# Altium footprint library Capacitors THD.PcbLib: 270 footprints (part 1 of 17)
Each footprint in its own frame and in the unit in brackets; x right, y up, seen from the top. Pads: shape width x height; smd on the part's side, far side on the other; paste and mask are expansions set on the pad; w line width, h text height; cw(c..) or ccw(c..) is an arc to the next point about the centre after c.
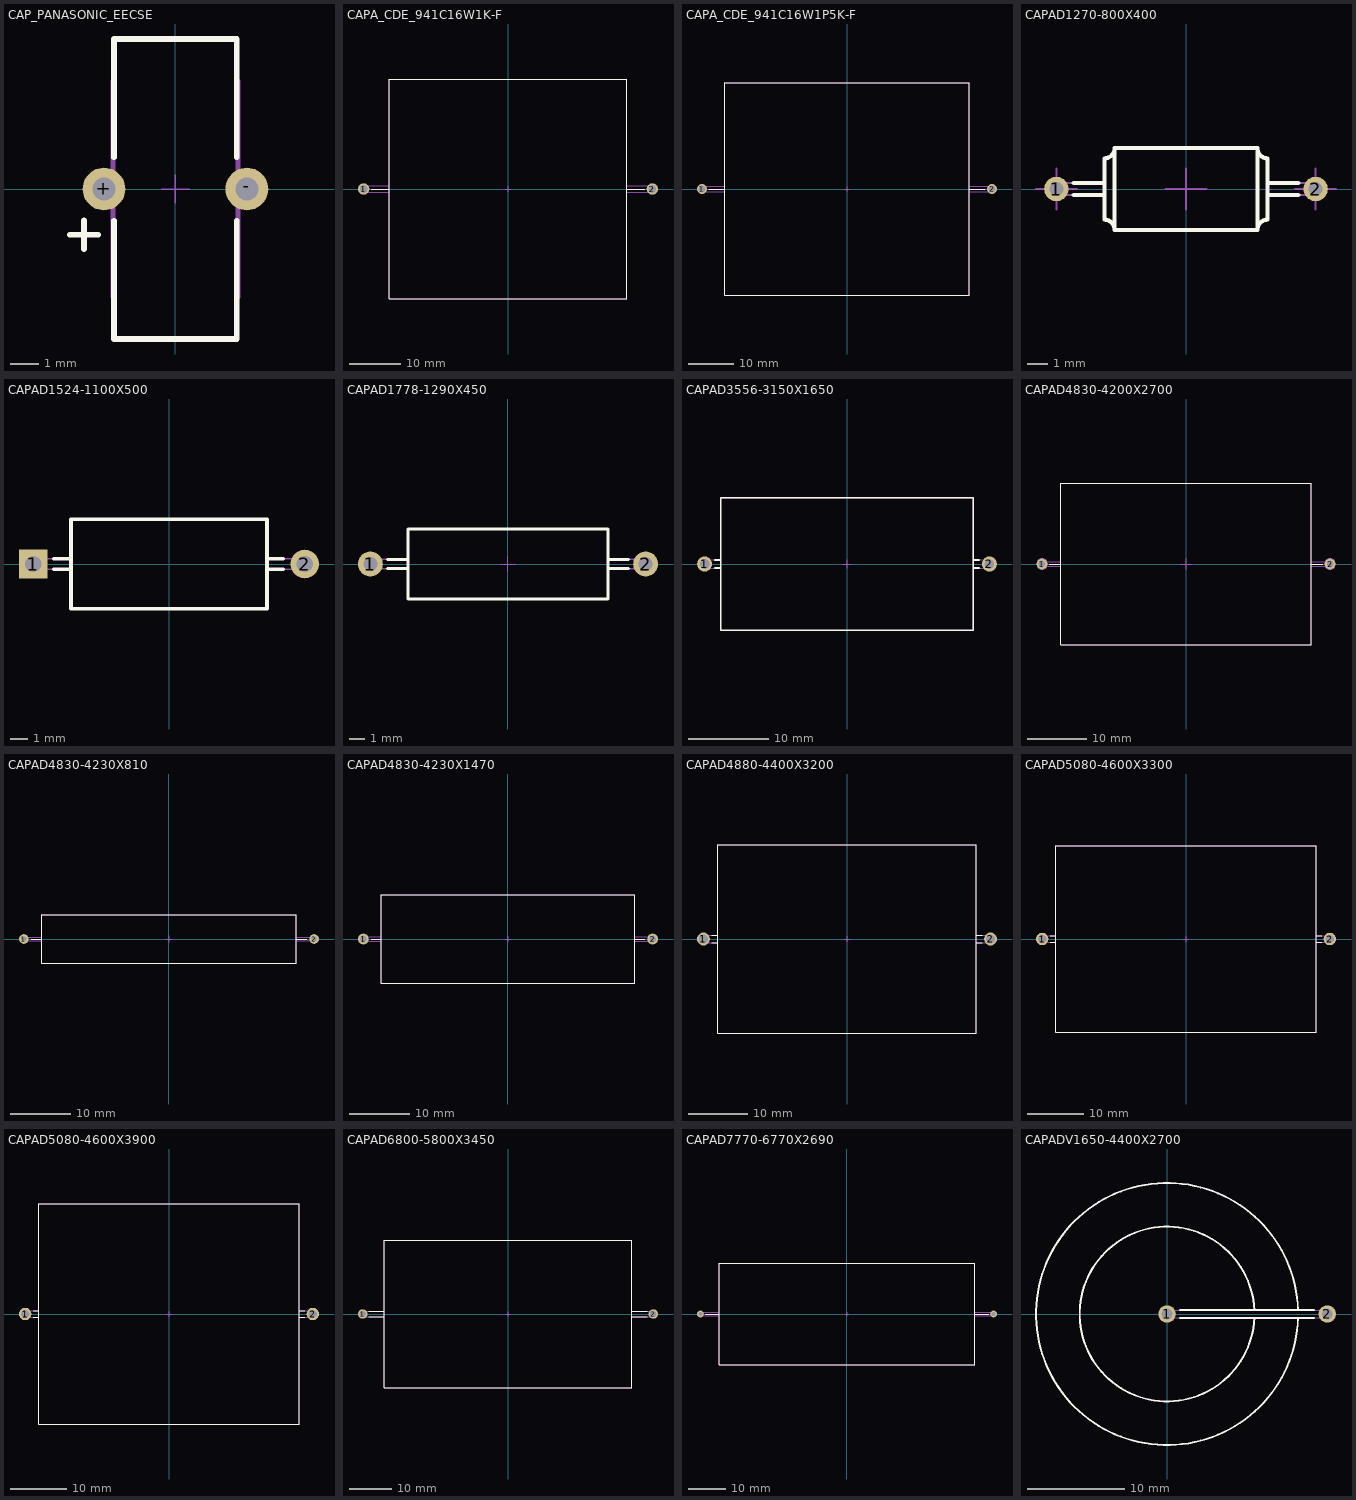
[diagram p0: the footprints below, top view; thin cyan lines are the x and y axes]

## CAP_PANASONIC_EECSE [mm] "Electric Double Layer Capacitor (Gold Capacitor) (EECSE Series)"
height 13.4
pads (2):
  round 1.5 hole 0.8: +(-2.5,0) -(2.5,0)
Top Overlay:
  lines w0.2: -3.7,-1.6 -2.7,-1.6 ; -3.2,-2.1 -3.2,-1.1 ; -2.15,-1.113 -2.15,-5.25 2.15,-5.25 2.15,-1.113 ; -2.15,1.113 -2.15,5.25 2.15,5.25 2.15,1.113
Mechanical 8:
  lines w0.05: -3,0 -2.5,0 ; -2.5,-0.5 -2.5,0 ; -2.5,0.5 -2.5,0 ; -2,0 -2.5,0 ; -0.5,0 0,0 ; 0,-0.5 0,0 ; 0,0.5 0,0 ; 0.5,0 0,0 ; 2,0 2.5,0 ; 2.5,-0.5 2.5,0 ; 2.5,0.5 2.5,0 ; 3,0 2.5,0
Mechanical 14:
  lines w0.1: -3.7,-1.6 -2.7,-1.6 ; -3.2,-2.1 -3.2,-1.1 ; -2.225,-0.275 -2.5,-0.275 cw(c-2.5,0) -2.5,0.275 -2.225,0.275 ; 2.225,-0.275 2.5,-0.275 ccw(c2.5,0) 2.5,0.275 2.225,0.275 ; -2.15,-5.25 2.15,-5.25 ; -2.15,-5.25 2.15,-5.25 ; -2.15,-5.25 -2.15,5.25 2.15,5.25 2.15,-5.25 ; -2.225,-3.8 -2.15,-3.8 -2.15,0 -2.15,3.8 -2.225,3.8 -2.225,-3.8 ; 2.15,-3.8 2.225,-3.8 2.225,3.8 2.15,3.8 2.15,0 2.15,-3.8
3D body "CAP_PANASONIC_EECSE.stp": height 13.4, standoff -3.6, extent -2.775,-5.25 2.775,5.25

## CAPA_CDE_941C16W1K-F [mm] "Capacitor Axial, Pin spacing 56mm - Body Length 46mm X Body Width 42.5mm Body Height 33.1mm"
height 33.1
pads (2):
  round 2.2 hole 1.5: 1(-28,0) 2(28,0)
Top Overlay:
  lines w0.2: -26.5,0 -23,0 ; 23,0 26.5,0 ; -23,-21.25 23,-21.25 23,21.25 -23,21.25 -23,-21.25
Mechanical 8:
  lines w0.1: -28.5,0 -28,0 ; -28,-0.5 -28,0 ; -28,0.5 -28,0 ; -27.5,0 -28,0 ; -0.5,0 0,0 ; 0,-0.5 0,0 ; 0,0.5 0,0 ; 0.5,0 0,0 ; 27.5,0 28,0 ; 28,-0.5 28,0 ; 28,0.5 28,0 ; 28.5,0 28,0
Mechanical 14:
  lines w0.1: -23,-0.6 -28,-0.6 cw(c-28,0) -28,0.6 -23,0.6 ; 23,-0.6 28,-0.6 ccw(c28,0) 28,0.6 23,0.6 ; -23,-21.25 23,-21.25 23,21.25 -23,21.25 -23,-21.25
3D body "CAPA_CDE_941C16W1K-F.stp": height 33.1, standoff -3.8, extent -28.595,-21.25 28.596,21.25

## CAPA_CDE_941C16W1P5K-F [mm] "Capacitor Axial, Pin spacing 64mm - Body Length 54mm X Body Width 47mm Body Height 34.5mm"
height 34.5
pads (2):
  round 2.2 hole 1.5: 1(-32,0) 2(32,0)
Top Overlay:
  lines w0.2: -30.5,0 -27,0 ; 27,0 30.5,0 ; -27,-23.5 -27,23.5 27,23.5 27,-23.5 -27,-23.5
Mechanical 8:
  lines w0.1: -32.5,0 -32,0 ; -32,-0.5 -32,0 ; -32,0.5 -32,0 ; -31.5,0 -32,0 ; -0.5,0 0,0 ; 0,-0.5 0,0 ; 0,0.5 0,0 ; 0.5,0 0,0 ; 31.5,0 32,0 ; 32,-0.5 32,0 ; 32,0.5 32,0 ; 32.5,0 32,0
Mechanical 14:
  lines w0.1: -27,-0.6 -32,-0.6 cw(c-32,0) -32,0.6 -27,0.6 ; 27,-0.6 32,-0.6 ccw(c32,0) 32,0.6 27,0.6 ; -27,-23.5 -27,23.5 27,23.5 27,-23.5 -27,-23.5
3D body "CAPA_CDE_941C16W1P5K-F.stp": height 34.5, standoff -3.25, extent -32.595,-23.5 32.595,23.5

## CAPAD1270-800X400 [mm] "Capacitor Axial, Pin spacing 12.7mm - Body Length 8mm X Body Diameter 4mm"
height 4
pads (2):
  round 1.2 hole 0.7: 1(-6.35,0) 2(6.35,0)
Top Overlay:
  lines w0.2: -5.5,-0.3 -4,-0.3 ; -5.5,0.3 -4,0.3 ; 4,-0.3 5.5,-0.3 ; 4,0.3 5.5,0.3 ; -3.5,-2 ccw(c-4,-2) -4,-1.5 -4,1.5 ccw(c-4,2) -3.5,2 ; -3.5,-2 3.5,-2 ; -3.5,-2 -3.5,2 ; -3.5,2 3.5,2 ; 3.5,-2 cw(c4,-2) 4,-1.5 4,1.5 cw(c4,2) 3.5,2 ; 3.5,-2 3.5,2
Mechanical 8:
  lines w0.1: -7.35,0 -6.35,0 ; -6.35,-1 -6.35,0 ; -6.35,1 -6.35,0 ; -5.35,0 -6.35,0 ; -1,0 0,0 ; 0,-1 0,0 ; 0,1 0,0 ; 1,0 0,0 ; 5.35,0 6.35,0 ; 6.35,-1 6.35,0 ; 6.35,1 6.35,0 ; 7.35,0 6.35,0
Mechanical 14:
  lines w0.1: -4,-0.3 -6.35,-0.3 cw(c-6.35,0) -6.35,0.3 -4,0.3 ; 4,-0.3 6.35,-0.3 ccw(c6.35,0) 6.35,0.3 4,0.3 ; -3.5,-2 ccw(c-4,-2) -4,-1.5 -4,1.5 ccw(c-4,2) -3.5,2 ; -3.5,-2 3.5,-2 ; -3.5,-2 -3.5,2 ; -3.5,2 3.5,2 ; 3.5,-2 cw(c4,-2) 4,-1.5 4,1.5 cw(c4,2) 3.5,2 ; 3.5,-2 3.5,2
3D body "CAPA1270-800X400.stp": height 4, standoff -3.6, extent -6.65,-2 6.65,2

## CAPAD1524-1100X500 [mm] "Capacitor Axial, Pin spacing 15.24mm - Body Length 11mm X Body Diameter 5.0mm"
height 5
pads (2):
  rect 1.6x1.6 hole 0.9: 1(-7.62,0)
  round 1.6 hole 0.9: 2(7.62,0)
Top Overlay:
  lines w0.2: -6.47,-0.3 -5.5,-0.3 ; -6.47,0.3 -5.5,0.3 ; 0,2.5 -5.5,2.5 ; 5.5,-0.3 6.425,-0.3 ; 5.5,0.3 6.425,0.3 ; -5.5,2.5 5.5,2.5 5.5,-2.5 -5.5,-2.5 -5.5,2.5
Mechanical 8:
  lines w0.1: -8.12,0 -7.62,0 ; -7.62,-0.5 -7.62,0 ; -7.62,0.5 -7.62,0 ; -7.12,0 -7.62,0 ; 7.12,0 7.62,0 ; 7.62,-0.5 7.62,0 ; 7.62,0.5 7.62,0 ; 8.12,0 7.62,0
Mechanical 14:
  lines w0.1: -5.5,-0.3 -7.62,-0.3 cw(c-7.62,0) -7.62,0.3 -5.5,0.3 ; 0,2.5 -5.5,2.5 ; 5.5,-0.3 7.62,-0.3 ccw(c7.62,0) 7.62,0.3 5.5,0.3 ; -5.5,2.5 5.5,2.5 5.5,-2.5 -5.5,-2.5 -5.5,2.5
3D body "CAPAD1524-1100X500.stp": height 5, standoff -3.1, extent -7.917,-2.5 7.918,2.5

## CAPAD1778-1290X450 [mm] "Capacitor Axial, Pin spacing 17.78mm - Body Length 12.9mm X Body Diameter 4.5mm"
height 4.5
pads (2):
  round 1.6 hole 0.9: 1(-8.89,0) 2(8.89,0)
Top Overlay:
  lines w0.2: -7.78,-0.3 -6.45,-0.3 ; -7.78,0.3 -6.45,0.3 ; 6.45,-0.3 7.78,-0.3 ; 6.45,0.3 7.78,0.3 ; -6.45,-2.25 6.45,-2.25 6.45,2.25 -6.45,2.25 -6.45,-2.25
Mechanical 8:
  lines w0.05: -9.39,0 -8.89,0 ; -8.89,-0.5 -8.89,0 ; -8.89,0.3 -8.89,0 ; -8.89,0.5 -8.89,0 ; -8.39,0 -8.89,0 ; -0.5,0 0,0 ; 0,-0.5 0,0 ; 0,0.5 0,0 ; 0.5,0 0,0 ; 8.39,0 8.89,0 ; 8.89,-0.5 8.89,0 ; 8.89,0.5 8.89,0 ; 9.39,0 8.89,0
Mechanical 14:
  lines w0.1: -6.45,-0.3 -8.89,-0.3 cw(c-8.89,0) -8.89,0.3 -6.45,0.3 ; 6.45,-0.3 8.89,-0.3 ccw(c8.89,0) 8.89,0.3 6.45,0.3 ; -6.45,-2.25 6.45,-2.25 6.45,2.25 -6.45,2.25 -6.45,-2.25
3D body "CAPAD1778-1290X450.stp": height 4.5, standoff -3.2, extent -9.187,-2.25 9.188,2.25

## CAPAD3556-3150X1650 [mm] "Capacitor Axial, Pin spacing 35.56mm - Body Length 31.5mm X Body Diameter 16.5mm"
height 16.5
pads (2):
  round 1.9 hole 1.2: 1(-17.78,0) 2(17.78,0)
Top Overlay:
  lines w0.2: -16.51,-0.5 -15.75,-0.5 ; -16.51,0.5 -15.75,0.5 ; 15.75,-0.5 16.51,-0.5 ; 15.75,0.5 16.51,0.5 ; -15.75,-8.25 -15.75,8.25 15.75,8.25 15.75,-8.25 -15.75,-8.25
Mechanical 8:
  lines w0.1: -18.28,0 -17.78,0 ; -17.78,-0.5 -17.78,0 ; -17.78,0.5 -17.78,0 ; -17.28,0 -17.78,0 ; -0.5,0 0,0 ; 0,-0.5 0,0 ; 0,0.5 0,0 ; 0.5,0 0,0 ; 17.28,0 17.78,0 ; 17.78,-0.5 17.78,0 ; 17.78,0.5 17.78,0 ; 18.28,0 17.78,0
Mechanical 14:
  lines w0.1: -15.75,-0.5 -17.78,-0.5 cw(c-17.78,0) -17.78,0.5 -15.75,0.5 ; 15.75,-0.5 17.78,-0.5 ccw(c17.78,0) 17.78,0.5 15.75,0.5 ; -15.75,-8.25 -15.75,8.25 15.75,8.25 15.75,-8.25 -15.75,-8.25
3D body "CAPAD3556-3150X1650.stp": height 16.5, standoff -3.1, extent -18.28,-8.25 18.28,8.25

## CAPAD4830-4200X2700 [mm] "Capacitor Axial, Pin spacing 48.3mm - Body Length 42mm X Body Diameter 27mm"
height 27
pads (2):
  round 1.8 hole 1.1: 1(-24.15,0) 2(24.15,0)
Top Overlay:
  lines w0.2: -22.9,0 -21,0 ; 21,0 22.9,0 ; -21,-13.5 -21,13.5 21,13.5 21,-13.5 -21,-13.5
Mechanical 8:
  circle w0.1: c-24.15,0 r0.55
  circle w0.1: c-24.15,0 r0.9
  circle w0.1: c24.15,0 r0.55
  circle w0.1: c24.15,0 r0.9
  lines w0.1: -25.15,0 -24.15,0 ; -24.15,-1 -24.15,0 ; -24.15,1 -24.15,0 ; -23.15,0 -24.15,0 ; -1,0 0,0 ; 0,-1 0,0 ; 0,1 0,0 ; 1,0 0,0 ; 23.15,0 24.15,0 ; 24.15,-1 24.15,0 ; 24.15,1 24.15,0 ; 25.15,0 24.15,0
Mechanical 14:
  lines w0.1: -21,-0.4 -24.15,-0.4 cw(c-24.15,0) -24.15,0.4 -21,0.4 ; 21,-0.4 24.15,-0.4 ccw(c24.15,0) 24.15,0.4 21,0.4 ; -21,-13.5 21,-13.5 21,13.5 -21,13.5 -21,-13.5
3D body "CAPAD4830-4200X2700.stp": height 26.99, standoff -5, extent -24.547,-13.5 24.547,13.5

## CAPAD4830-4230X810 [mm] "Capacitor Axial, Pin spacing 48.3mm - Body Length 42.3mm X Body Diameter 8.1mm"
height 8.1
pads (2):
  round 1.6 hole 0.9: 1(-24.15,0) 2(24.15,0)
Top Overlay:
  lines w0.2: -22.95,0 -21.15,0 ; 21.15,0 22.95,0 ; -21.15,-4.05 -21.15,4.05 21.15,4.05 21.15,-4.05 -21.15,-4.05
Mechanical 8:
  lines w0.1: -24.65,0 -24.15,0 ; -24.15,-0.5 -24.15,0 ; -24.15,0.5 -24.15,0 ; -23.65,0 -24.15,0 ; -0.5,0 0,0 ; 0,-0.5 0,0 ; 0,0.5 0,0 ; 0.5,0 0,0 ; 23.65,0 24.15,0 ; 24.15,-0.5 24.15,0 ; 24.15,0.5 24.15,0 ; 24.65,0 24.15,0
Mechanical 14:
  lines w0.1: -21.15,-0.32 -24.15,-0.32 cw(c-24.15,0) -24.15,0.32 -21.15,0.32 ; 21.15,-0.32 24.15,-0.32 ccw(c24.15,0) 24.15,0.32 21.15,0.32 ; -21.15,-4.05 -21.15,4.05 21.15,4.05 21.15,-4.05 -21.15,-4.05
3D body "CAPAD4830-4230X810.stp": height 8.07, standoff -3.6, extent -24.467,-4.042 24.468,4.042

## CAPAD4830-4230X1470 [mm] "Capacitor Axial, Pin spacing 48.3mm - Body Length 42.3mm X Body Diameter 14.7mm"
height 14.7
pads (2):
  round 1.8 hole 1.1: 1(-24.15,0) 2(24.15,0)
Top Overlay:
  lines w0.2: -22.85,0 -21.15,0 ; 21.15,0 22.85,0 ; -21.15,-7.35 21.15,-7.35 21.15,7.35 -21.15,7.35 -21.15,-7.35
Mechanical 8:
  lines w0.1: -24.65,0 -24.15,0 ; -24.15,-0.5 -24.15,0 ; -24.15,0.5 -24.15,0 ; -23.65,0 -24.15,0 ; -0.5,0 0,0 ; 0,-0.5 0,0 ; 0,0.5 0,0 ; 0.5,0 0,0 ; 23.65,0 24.15,0 ; 24.15,-0.5 24.15,0 ; 24.15,0.5 24.15,0 ; 24.65,0 24.15,0
Mechanical 14:
  lines w0.1: -21.15,-0.405 -24.15,-0.405 cw(c-24.15,0) -24.15,0.405 -21.15,0.405 ; 21.15,-0.405 24.15,-0.405 ccw(c24.15,0) 24.15,0.405 21.15,0.405 ; -21.15,-7.35 21.15,-7.35 21.15,7.35 -21.15,7.35 -21.15,-7.35
3D body "CAPAD4830-4230X1470.stp": height 14.64, standoff -3.6, extent -24.552,-7.335 24.552,7.336

## CAPAD4880-4400X3200 [mm] "Capacitor Axial, Pin spacing 48.8mm - Body Length 44mm X Body Diameter 32mm"
height 32
pads (2):
  round 2.2 hole 1.5: 1(-24.4,0) 2(24.4,0)
Top Overlay:
  lines w0.2: -23.025,-0.6 -22,-0.6 ; -23.025,0.6 -22,0.6 ; 22,-0.6 23.025,-0.6 ; 22,0.6 23.025,0.6 ; -22,-16 22,-16 22,16 -22,16 -22,-16
Mechanical 8:
  lines w0.1: -24.9,0 -24.4,0 ; -24.4,-0.5 -24.4,0 ; -24.4,0.5 -24.4,0 ; -23.9,0 -24.4,0 ; -0.5,0 0,0 ; 0,-0.5 0,0 ; 0,0.5 0,0 ; 0.5,0 0,0 ; 23.9,0 24.4,0 ; 24.4,-0.5 24.4,0 ; 24.4,0.5 24.4,0 ; 24.9,0 24.4,0
Mechanical 14:
  lines w0.1: -22,-0.6 -24.4,-0.6 cw(c-24.4,0) -24.4,0.6 -22,0.6 ; 22,-0.6 24.4,-0.6 ccw(c24.4,0) 24.4,0.6 22,0.6 ; -22,-16 22,-16 22,16 -22,16 -22,-16
3D body "CAPAD4880-4400X3200.stp": height 32, standoff -3.8, extent -24.995,-16 24.995,16

## CAPAD5080-4600X3300 [mm] "Capacitor Axial, Pin spacing 50.8mm - Body Length 46mm X Body Diameter 33mm"
height 33
pads (2):
  round 2.2 hole 1.5: 1(-25.4,0) 2(25.4,0)
Top Overlay:
  lines w0.2: -24.025,-0.6 -23,-0.6 ; -24.025,0.6 -23,0.6 ; 23,-0.6 24.025,-0.6 ; 23,0.6 24.025,0.6 ; -23,-16.5 23,-16.5 23,16.5 -23,16.5 -23,-16.5
Mechanical 8:
  lines w0.1: -25.9,0 -25.4,0 ; -25.4,-0.5 -25.4,0 ; -25.4,0.5 -25.4,0 ; -24.9,0 -25.4,0 ; -0.5,0 0,0 ; 0,-0.5 0,0 ; 0,0.5 0,0 ; 0.5,0 0,0 ; 24.9,0 25.4,0 ; 25.4,-0.5 25.4,0 ; 25.4,0.5 25.4,0 ; 25.9,0 25.4,0
Mechanical 14:
  lines w0.1: -23,-0.6 -25.4,-0.6 cw(c-25.4,0) -25.4,0.6 -23,0.6 ; 23,-0.6 25.4,-0.6 ccw(c25.4,0) 25.4,0.6 23,0.6 ; -23,-16.5 23,-16.5 23,16.5 -23,16.5 -23,-16.5
3D body "CAPAD5080-4600X3300.stp": height 33, standoff -3.8, extent -26,-16.5 26,16.5

## CAPAD5080-4600X3900 [mm] "Capacitor Axial, Pin spacing 50.8mm - Body Length 46mm X Body Diameter 39mm"
height 39
pads (2):
  round 2.2 hole 1.5: 1(-25.4,0) 2(25.4,0)
Top Overlay:
  lines w0.2: -24.025,-0.6 -23,-0.6 ; -24.025,0.6 -23,0.6 ; 23,-0.6 24.025,-0.6 ; 23,0.6 24.025,0.6 ; -23,-19.5 -23,19.5 23,19.5 23,-19.5 -23,-19.5
Mechanical 8:
  lines w0.1: -25.9,0 -25.4,0 ; -25.4,-0.5 -25.4,0 ; -25.4,0.5 -25.4,0 ; -24.9,0 -25.4,0 ; -0.5,0 0,0 ; 0,-0.5 0,0 ; 0,0.5 0,0 ; 0.5,0 0,0 ; 24.9,0 25.4,0 ; 25.4,-0.5 25.4,0 ; 25.4,0.5 25.4,0 ; 25.9,0 25.4,0
Mechanical 14:
  lines w0.1: -23,-0.6 -25.4,-0.6 cw(c-25.4,0) -25.4,0.6 -23,0.6 ; 23,-0.6 25.4,-0.6 ccw(c25.4,0) 25.4,0.6 23,0.6 ; -23,-19.5 23,-19.5 23,19.5 -23,19.5 -23,-19.5
3D body "CAPAD5080-4600X3900.stp": height 39, standoff -3.8, extent -26,-19.5 26,19.5

## CAPAD6800-5800X3450 [mm] "Capacitor Axial Diameter, Pin spacing 68mm - Body Length 58mm X Body Diameter 34.5mm"
height 34.5
pads (2):
  round 2.2 hole 1.5: 1(-34,0) 2(34,0)
Top Overlay:
  lines w0.2: -32.625,-0.6 -29,-0.6 ; -32.625,0.6 -29,0.6 ; 29,-0.6 32.625,-0.6 ; 29,0.6 32.625,0.6 ; -29,-17.25 -29,17.25 29,17.25 29,-17.25 -29,-17.25
Mechanical 8:
  lines w0.1: -34.5,0 -34,0 ; -34,-0.5 -34,0 ; -34,0.5 -34,0 ; -33.5,0 -34,0 ; -0.5,0 0,0 ; 0,-0.5 0,0 ; 0,0.5 0,0 ; 0.5,0 0,0 ; 33.5,0 34,0 ; 34,-0.5 34,0 ; 34,0.5 34,0 ; 34.5,0 34,0
Mechanical 14:
  lines w0.1: -29,-0.6 -34,-0.6 cw(c-34,0) -34,0.6 -29,0.6 ; 29,-0.6 34,-0.6 ccw(c34,0) 34,0.6 29,0.6 ; -29,-17.25 -29,17.25 29,17.25 29,-17.25 -29,-17.25
3D body "CAPAD6800-5800X3450.stp": height 34.5, standoff -3.75, extent -34.6,-17.25 34.6,17.25

## CAPAD7770-6770X2690 [mm] "Capacitor Axial, Pin spacing 77.7mm - Body Length 67.7mm X Body Diameter 26.9mm"
height 26.9
pads (2):
  round 1.8 hole 1.1: 1(-38.85,0) 2(38.85,0)
Top Overlay:
  lines w0.2: -37.55,0 -33.85,0 ; 33.85,0 37.55,0 ; -33.85,-13.45 33.85,-13.45 33.85,13.45 -33.85,13.45 -33.85,-13.45
Mechanical 8:
  lines w0.1: -39.35,0 -38.85,0 ; -38.85,-0.5 -38.85,0 ; -38.85,0.5 -38.85,0 ; -38.35,0 -38.85,0 ; -0.5,0 0,0 ; 0,-0.5 0,0 ; 0,0.5 0,0 ; 0.5,0 0,0 ; 38.35,0 38.85,0 ; 38.85,-0.5 38.85,0 ; 38.85,0.5 38.85,0 ; 39.35,0 38.85,0
Mechanical 14:
  lines w0.1: -33.85,-0.405 -38.85,-0.405 cw(c-38.85,0) -38.85,0.405 -33.85,0.405 ; 33.85,-0.405 38.853,-0.405 ccw(c38.85,0) 38.85,0.405 33.85,0.405 ; -33.85,-13.45 33.85,-13.45 33.85,13.45 -33.85,13.45 -33.85,-13.45
3D body "CAPAD7770-6770X2690.stp": height 26.87, standoff -3.6, extent -39.252,-13.344 39.252,13.45

## CAPADV1650-4400X2700 [mm] "Capacitor Axial, Vertical Mount, Pin Spacing 16.5mm, Body Length 44mm X Body Diameter 27mm"
height 46.4
pads (2):
  round 1.8 hole 1.1: 1(0,0) 2(16.5,0)
Top Overlay:
  lines w0.2: 1.342,-0.4 15.158,-0.4 ; 1.342,0.4 15.158,0.4 ; 8.991,-0.4 cw(c0,0) 8.991,0.4 ; 13.494,-0.4 cw(c0,0) 13.494,0.4
Mechanical 8:
  lines w0.05: -0.5,0 0,0 ; 0,-0.5 0,0 ; 0,0.5 0,0 ; 0.5,0 0,0 ; 16,0 16.5,0 ; 16.5,-0.5 16.5,0 ; 16.5,0.5 16.5,0 ; 17,0 16.5,0
Mechanical 14:
  lines w0.1: 8.991,-0.4 cw(c0,0) 8.991,0.4 ; 13.494,-0.4 cw(c0,0) 13.494,0.4 ; 16.5,-0.4 ccw(c16.5,0) 16.5,0.4 ; 16.51,-0.4 0,-0.4 cw(c0,0) 0,0.4 16.51,0.4
3D body "CAPADV1650-4400X2700_Part1.stp": height 44, standoff -3.5, extent -13.5,-13.5 13.5,13.5
3D body "CAPADV1650-4400X2700_Part2.stp": height 46.4, standoff -3.5, extent -0.4,-0.4 16.9,0.4